# Altium footprint library W3A41C102MAT2A.PcbLib: 1 footprints
Each footprint in its own frame and in the unit in brackets; x right, y up, seen from the top. Pads: shape width x height; smd on the part's side, far side on the other; paste and mask are expansions set on the pad; w line width, h text height; cw(c..) or ccw(c..) is an arc to the next point about the centre after c.
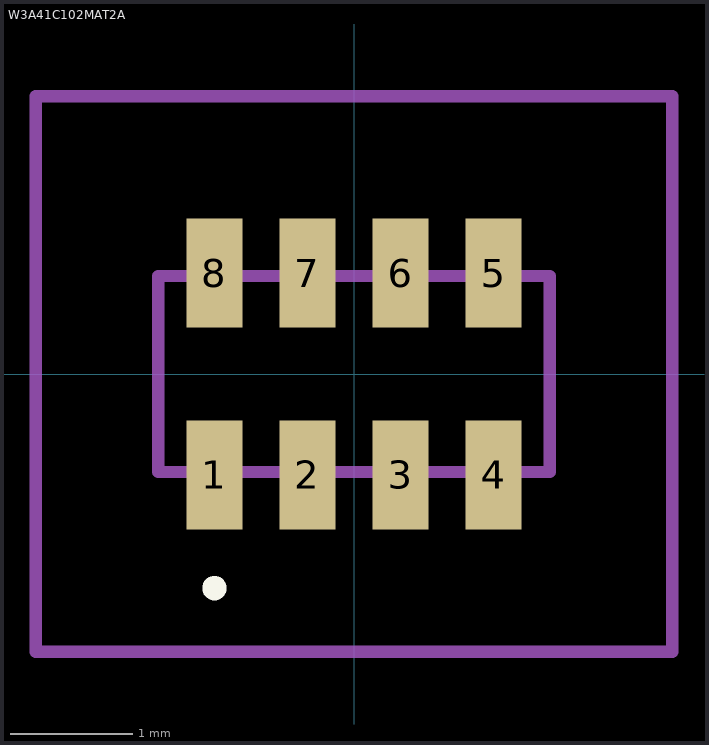
[diagram p0: the footprint, top view; thin cyan lines are the x and y axes]

## W3A41C102MAT2A [mm]
pads (8):
  rect 0.46x0.89 smd: 1(-1.14,-0.825) 2(-0.38,-0.825) 3(0.38,-0.825) 4(1.14,-0.825) 5(1.14,0.825) 6(0.38,0.825) 7(-0.38,0.825) 8(-1.14,0.825)
Top Overlay:
  lines w0.1: -1.14,-1.8 -1.14,-1.8 ; -1.14,-1.8 ccw(c-1.14,-1.75) -1.14,-1.7 ; -1.14,-1.8 cw(c-1.14,-1.75) -1.14,-1.7 ; -1.14,-1.7 -1.14,-1.7
Mechanical 15:
  lines w0.1: -1.6,-0.8 1.6,-0.8 1.6,0.8 -1.6,0.8 -1.6,-0.8
Mechanical 20:
  lines w0.1: -2.6,-2.27 2.6,-2.27 2.6,2.27 -2.6,2.27 -2.6,-2.27